# Altium footprint library Footprint.PcbLib: 105 footprints (part 6 of 7)
Each footprint in its own frame and in the unit in brackets; x right, y up, seen from the top. Pads: shape width x height; smd on the part's side, far side on the other; paste and mask are expansions set on the pad; w line width, h text height; cw(c..) or ccw(c..) is an arc to the next point about the centre after c.
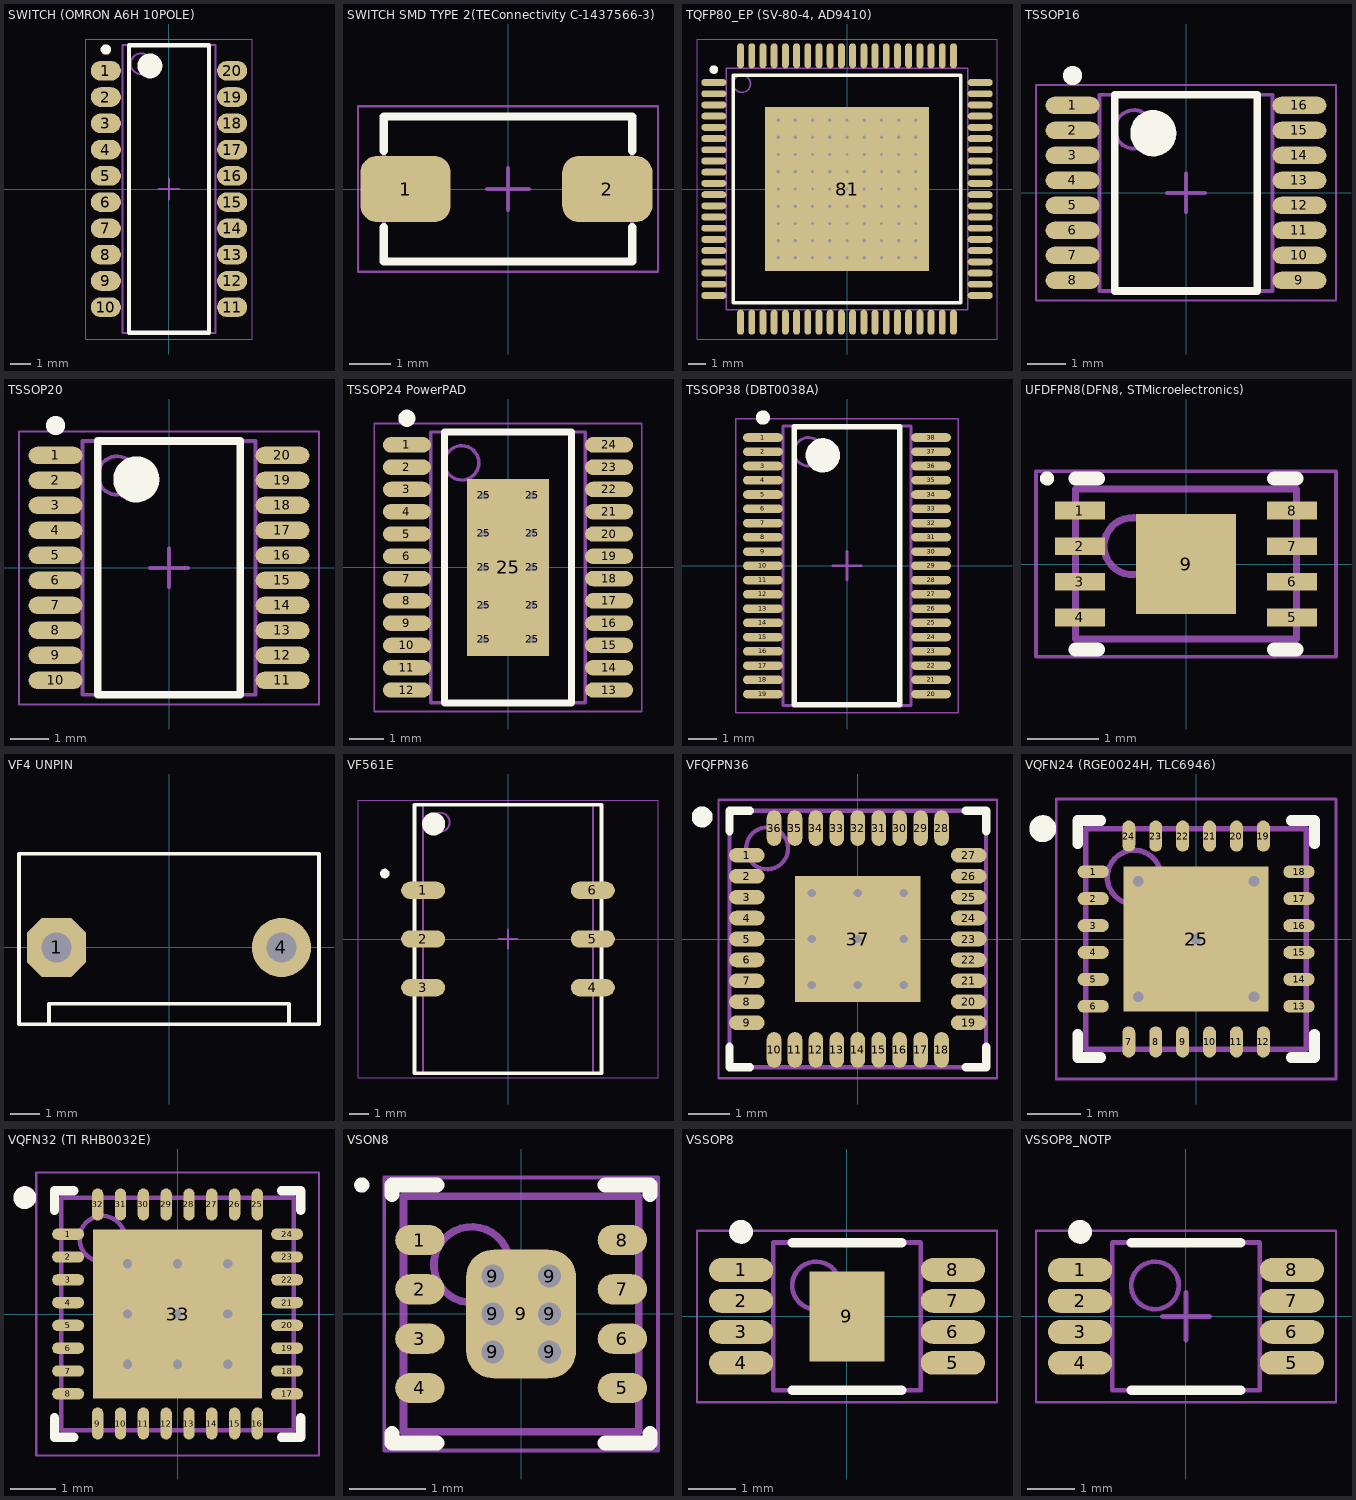
[diagram p5: the footprints below, top view; thin cyan lines are the x and y axes]

## SWITCH (OMRON A6H 10POLE) [mm]
height 1.45
pads (20):
  oval 1.45x0.95 smd: 1(-3.05,5.715) 2(-3.05,4.445) 3(-3.05,3.175) 4(-3.05,1.905) 5(-3.05,0.635) 6(-3.05,-0.635) 7(-3.05,-1.905) 8(-3.05,-3.175) 9(-3.05,-4.445) 10(-3.05,-5.715) 11(3.05,-5.715) 12(3.05,-4.445) 13(3.05,-3.175) 14(3.05,-1.905) 15(3.05,-0.635) 16(3.05,0.635) 17(3.05,1.905) 18(3.05,3.175) 19(3.05,4.445) 20(3.05,5.715)
Top Overlay:
  circle w0.25: c-3.05,6.74 r0.125
  circle w0.6: c-0.925,5.95 r0.3
  lines w0.2: -1.925,-6.95 -1.925,6.95 1.925,6.95 1.925,-6.95 -1.925,-6.95
Mechanical 13:
  circle w0.1: c-1.35,6.05 r0.5
  lines w0.1: -2.25,-6.95 -2.25,6.95 2.25,6.95 2.25,-6.95 -2.25,-6.95
Mechanical 15:
  lines w0.05: -4.025,-7.25 -4.025,7.25 4.025,7.25 4.025,-7.25 -4.025,-7.25
  lines w0.1: -0.5,0 0.5,0 ; 0,-0.5 0,0.5
3D body: height 1.45, standoff 0.1, extent -2.25,-6.95 2.25,6.95

## SWITCH SMD TYPE 2(TEConnectivity C-1437566-3) [mm] "2-Leads, Body 6,00x3,50mm, IPC Medium Density"
height 4.57
pads (2):
  rrect50% 2.18x1.6 smd: 1(-2.475,0) 2(2.4,0)
Top Overlay:
  lines w0.2: -3,-0.925 -3,-1.75 3,-1.75 3,-0.925 ; -3,0.925 -3,1.75 3,1.75 3,0.925
Mechanical 13:
  lines w0.1: -3,-1.75 -3,1.75 3,1.75 3,-1.75 -3,-1.75
Mechanical 15:
  lines w0.05: -3.625,-2 -3.625,2 3.625,2 3.625,-2 -3.625,-2
  lines w0.1: -0.5,0 0.5,0 ; 0,-0.5 0,0.5
3D body: height 4.57, standoff 0, extent -3,-1.75 3,1.75

## TQFP80_EP (SV-80-4, AD9410) [mm] "TQFP, 80-Leads, Body 14.00x14.00mm, Pitch 0.65mm, Thermal Pad 9.50x9.50mm, IPC Medium Density"
height 1.2
pads (162):
  oval 1.45x0.4 smd: 1(-7.725,6.175) 2(-7.725,5.525) 3(-7.725,4.875) 4(-7.725,4.225) 5(-7.725,3.575) 6(-7.725,2.925) 7(-7.725,2.275) 8(-7.725,1.625) 9(-7.725,0.975) 10(-7.725,0.325) 11(-7.725,-0.325) 12(-7.725,-0.975) 13(-7.725,-1.625) 14(-7.725,-2.275) 15(-7.725,-2.925) 16(-7.725,-3.575) 17(-7.725,-4.225) 18(-7.725,-4.875) 19(-7.725,-5.525) 20(-7.725,-6.175) 41(7.725,-6.175) 42(7.725,-5.525) 43(7.725,-4.875) 44(7.725,-4.225) 45(7.725,-3.575) 46(7.725,-2.925) 47(7.725,-2.275) 48(7.725,-1.625) 49(7.725,-0.975) 50(7.725,-0.325) 51(7.725,0.325) 52(7.725,0.975) 53(7.725,1.625) 54(7.725,2.275) 55(7.725,2.925) 56(7.725,3.575) 57(7.725,4.225) 58(7.725,4.875) 59(7.725,5.525) 60(7.725,6.175)
  oval 0.4x1.45 smd: 21(-6.175,-7.725) 22(-5.525,-7.725) 23(-4.875,-7.725) 24(-4.225,-7.725) 25(-3.575,-7.725) 26(-2.925,-7.725) 27(-2.275,-7.725) 28(-1.625,-7.725) 29(-0.975,-7.725) 30(-0.325,-7.725) 31(0.325,-7.725) 32(0.975,-7.725) 33(1.625,-7.725) 34(2.275,-7.725) 35(2.925,-7.725) 36(3.575,-7.725) 37(4.225,-7.725) 38(4.875,-7.725) 39(5.525,-7.725) 40(6.175,-7.725) 61(6.175,7.725) 62(5.525,7.725) 63(4.875,7.725) 64(4.225,7.725) 65(3.575,7.725) 66(2.925,7.725) 67(2.275,7.725) 68(1.625,7.725) 69(0.975,7.725) 70(0.325,7.725) 71(-0.325,7.725) 72(-0.975,7.725) 73(-1.625,7.725) 74(-2.275,7.725) 75(-2.925,7.725) 76(-3.575,7.725) 77(-4.225,7.725) 78(-4.875,7.725) 79(-5.525,7.725) 80(-6.175,7.725)
  round 0.5 hole 0.2: 81(-4,-4) 81(-4,-3) 81(-4,-2) 81(-4,-1) 81(-4,0) 81(-4,1) 81(-4,2) 81(-4,3) 81(-4,4) 81(-3,-4) 81(-3,-3) 81(-3,-2) 81(-3,-1) 81(-3,0) 81(-3,1) 81(-3,2) 81(-3,3) 81(-3,4) 81(-2,0) 81(-2,-4) 81(-2,-3) 81(-2,-2) 81(-2,-1) 81(-2,1) 81(-2,2) 81(-2,3) 81(-2,4) 81(-1,-4) 81(-1,-3) 81(-1,-2) 81(-1,-1) 81(-1,0) 81(-1,1) 81(-1,2) 81(-1,3) 81(-1,4) 81(0,-4) 81(0,-3) 81(0,-2) 81(0,-1) 81(0,0) 81(0,1) 81(0,2) 81(0,3) 81(0,4) 81(1,-4) 81(1,-3) 81(1,-2) 81(1,-1) 81(1,0) 81(1,1) 81(1,2) 81(1,3) 81(1,4) 81(2,-4) 81(2,-3) 81(2,-2) 81(2,-1) 81(2,1) 81(2,2) 81(2,3) 81(2,4) 81(2,0) 81(3,-4) 81(3,-3) 81(3,-2) 81(3,-1) 81(3,0) 81(3,1) 81(3,2) 81(3,3) 81(3,4) 81(4,-4) 81(4,-3) 81(4,-2) 81(4,-1) 81(4,0) 81(4,1) 81(4,2) 81(4,3) 81(4,4)
  rect 9.5x9.5 smd: 81(0,0)
Top Overlay:
  circle w0.25: c-7.725,6.925 r0.125
  lines w0.2: -6.6,-6.6 6.6,-6.6 6.6,6.6 -6.6,6.6 -6.6,-6.6
Mechanical 13:
  circle w0.1: c-6.1,6.1 r0.5
  lines w0.1: -7,-7 7,-7 7,7 -7,7 -7,-7
Mechanical 15:
  lines w0.05: -8.7,-8.7 8.7,-8.7 8.7,8.7 -8.7,8.7 -8.7,-8.7
  lines w0.1: -0.5,0 0.5,0 ; 0,-0.5 0,0.5
3D body: height 1.2, standoff 0.15, extent -7,-7 7,7

## TSSOP16 [mm]
height 1.2
pads (16):
  oval 1.4x0.45 smd: 1(-2.95,2.275) 2(-2.95,1.625) 3(-2.95,0.975) 4(-2.95,0.325) 5(-2.95,-0.325) 6(-2.95,-0.975) 7(-2.95,-1.625) 8(-2.95,-2.275) 9(2.95,-2.275) 10(2.95,-1.625) 11(2.95,-0.975) 12(2.95,-0.325) 13(2.95,0.325) 14(2.95,0.975) 15(2.95,1.625) 16(2.95,2.275)
Top Overlay:
  circle w0.25: c-2.95,3.05 r0.125
  circle w0.6: c-0.85,1.55 r0.3
  lines w0.2: -1.85,-2.55 -1.85,2.55 1.85,2.55 1.85,-2.55 -1.85,-2.55
Mechanical 13:
  circle w0.1: c-1.35,1.65 r0.5
  lines w0.1: -2.25,-2.55 -2.25,2.55 2.25,2.55 2.25,-2.55 -2.25,-2.55
Mechanical 15:
  lines w0.05: -3.9,-2.8 -3.9,2.8 3.9,2.8 3.9,-2.8 -3.9,-2.8
  lines w0.1: -0.5,0 0.5,0 ; 0,-0.5 0,0.5
3D body: height 1.2, standoff 0.15, extent -2.25,-2.55 2.25,2.55

## TSSOP20 [mm]
pads (20):
  oval 1.4x0.45 smd: 1(-2.95,2.925) 2(-2.95,2.275) 3(-2.95,1.625) 4(-2.95,0.975) 5(-2.95,0.325) 6(-2.95,-0.325) 7(-2.95,-0.975) 8(-2.95,-1.625) 9(-2.95,-2.275) 10(-2.95,-2.925) 11(2.95,-2.925) 12(2.95,-2.275) 13(2.95,-1.625) 14(2.95,-0.975) 15(2.95,-0.325) 16(2.95,0.325) 17(2.95,0.975) 18(2.95,1.625) 19(2.95,2.275) 20(2.95,2.925)
Top Overlay:
  circle w0.25: c-2.95,3.7 r0.125
  circle w0.6: c-0.85,2.3 r0.3
  lines w0.2: -1.85,-3.3 -1.85,3.3 1.85,3.3 1.85,-3.3 -1.85,-3.3
Mechanical 13:
  circle w0.1: c-1.35,2.4 r0.5
  lines w0.1: -2.25,-3.3 -2.25,3.3 2.25,3.3 2.25,-3.3 -2.25,-3.3
Mechanical 15:
  lines w0.05: -3.9,-3.55 -3.9,3.55 3.9,3.55 3.9,-3.55 -3.9,-3.55
  lines w0.1: -0.5,0 0.5,0 ; 0,-0.5 0,0.5
3D body: height 1.2, standoff 0.1, extent -2.25,-3.3 2.25,3.3

## TSSOP24 PowerPAD [mm] "TSOP, 24-Leads, Body 7,80x4,40mm, Pitch 0,65mm, Thermal Pad 5,16x2,40mm, IPC Medium Density"
height 1.2
pads (35):
  oval 1.4x0.45 smd: 1(-2.95,3.575) 2(-2.95,2.925) 3(-2.95,2.275) 4(-2.95,1.625) 5(-2.95,0.975) 6(-2.95,0.325) 7(-2.95,-0.325) 8(-2.95,-0.975) 9(-2.95,-1.625) 10(-2.95,-2.275) 11(-2.95,-2.925) 12(-2.95,-3.575) 13(2.95,-3.575) 14(2.95,-2.925) 15(2.95,-2.275) 16(2.95,-1.625) 17(2.95,-0.975) 18(2.95,-0.325) 19(2.95,0.325) 20(2.95,0.975) 21(2.95,1.625) 22(2.95,2.275) 23(2.95,2.925) 24(2.95,3.575)
  round 0.5 hole 0.2: 25(-0.7,-2.1) 25(-0.7,-1.1) 25(-0.7,0) 25(-0.7,1) 25(-0.7,2.1) 25(0.7,-2.1) 25(0.7,-1.1) 25(0.7,0) 25(0.7,1) 25(0.7,2.1)
  rect 2.4x5.16 smd: 25(0,0)
Top Overlay:
  circle w0.25: c-2.95,4.35 r0.125
  lines w0.2: -1.85,-3.95 -1.85,3.95 1.85,3.95 1.85,-3.95 -1.85,-3.95
Mechanical 13:
  circle w0.1: c-1.35,3.05 r0.5
  lines w0.1: -2.25,-3.95 -2.25,3.95 2.25,3.95 2.25,-3.95 -2.25,-3.95
Mechanical 15:
  lines w0.05: -3.9,-4.2 -3.9,4.2 3.9,4.2 3.9,-4.2 -3.9,-4.2
  lines w0.1: -0.5,0 0.5,0 ; 0,-0.5 0,0.5
3D body: height 1.2, standoff 0.25, extent -2.25,-3.95 2.25,3.95

## TSSOP38 (DBT0038A) [mm]
height 1.2
pads (38):
  oval 1.4x0.3 smd: 1(-2.95,4.5) 2(-2.95,4) 3(-2.95,3.5) 4(-2.95,3) 5(-2.95,2.5) 6(-2.95,2) 7(-2.95,1.5) 8(-2.95,1) 9(-2.95,0.5) 10(-2.95,0) 11(-2.95,-0.5) 12(-2.95,-1) 13(-2.95,-1.5) 14(-2.95,-2) 15(-2.95,-2.5) 16(-2.95,-3) 17(-2.95,-3.5) 18(-2.95,-4) 19(-2.95,-4.5) 20(2.95,-4.5) 21(2.95,-4) 22(2.95,-3.5) 23(2.95,-3) 24(2.95,-2.5) 25(2.95,-2) 26(2.95,-1.5) 27(2.95,-1) 28(2.95,-0.5) 29(2.95,0) 30(2.95,0.5) 31(2.95,1) 32(2.95,1.5) 33(2.95,2) 34(2.95,2.5) 35(2.95,3) 36(2.95,3.5) 37(2.95,4) 38(2.95,4.5)
Top Overlay:
  circle w0.25: c-2.95,5.2 r0.125
  circle w0.6: c-0.85,3.875 r0.3
  lines w0.2: -1.85,-4.875 -1.85,4.875 1.85,4.875 1.85,-4.875 -1.85,-4.875
Mechanical 13:
  circle w0.1: c-1.35,4 r0.5
  lines w0.1: -2.25,-4.9 -2.25,4.9 2.25,4.9 2.25,-4.9 -2.25,-4.9
Mechanical 15:
  lines w0.05: -3.9,-5.15 -3.9,5.15 3.9,5.15 3.9,-5.15 -3.9,-5.15
  lines w0.1: -0.5,0 0.5,0 ; 0,-0.5 0,0.5
3D body: height 1.2, standoff 0.1, extent -2.25,-4.9 2.25,4.9

## UFDFPN8(DFN8, STMicroelectronics) [mm] "UFDFPN, 8-Leads, Body 2,00x3,00mm, Pitch 0,50mm, Thermal Pad 1,40x1,40mm, IPC Medium Density"
height 0.6
pads (9):
  rect 0.7x0.25 smd: 1(-1.49,0.75) 2(-1.49,0.25) 3(-1.49,-0.25) 4(-1.49,-0.75) 5(1.49,-0.75) 6(1.49,-0.25) 7(1.49,0.25) 8(1.49,0.75)
  rect 1.4x1.4 smd: 9(0,0)
Top Overlay:
  circle w0.1: c-1.95,1.2 r0.05
  lines w0.2: -1.55,-1.2 -1.24,-1.2 ; -1.55,1.2 -1.24,1.2 ; 1.24,-1.2 1.55,-1.2 ; 1.24,1.2 1.55,1.2
Mechanical 13:
  circle w0.1: c-0.75,0.25 r0.4
  lines w0.1: -1.55,-1.05 1.55,-1.05 1.55,1.05 -1.55,1.05 -1.55,-1.05
Mechanical 15:
  lines w0.05: -2.105,-1.3 2.105,-1.3 2.105,1.3 -2.105,1.3 -2.105,-1.3
  lines w0.1: -0.5,0 0.5,0 ; 0,-0.5 0,0.5
3D body: height 0.6, standoff 0.05, extent -1.55,-1.05 1.55,1.05

## VF4 UNPIN [mm]
pads (2):
  oct 2x2 hole 1: 1(-3.81,0)
  round 2 hole 1: 4(3.81,0)
Top Overlay:
  lines w0.127: -4.064,-2.6 -4.064,-1.905 4.064,-1.905 4.064,-2.6 ; -5.08,-2.6 5.08,-2.6 5.08,3.175 -5.08,3.175 -5.08,-2.6
3D body "WF4S-(2.54).step": height 11.5, standoff -3, extent -5.08,-2.6 5.08,3.2

## VF561E [mm] "CFP, 6-Leads, Body 13.97x8.89mm (max), Pitch 2.54mm, IPC Medium Density"
height 3.31
pads (6):
  oval 2.3x0.9 smd: 1(-4.425,2.54) 2(-4.425,0) 3(-4.425,-2.54) 4(4.425,-2.54) 5(4.425,0) 6(4.425,2.54)
Top Overlay:
  circle w0.6: c-3.875,6 r0.3
  circle w0.25: c-6.425,3.415 r0.125
  lines w0.2: -4.875,-7 -4.875,7 4.875,7 4.875,-7 -4.875,-7
Mechanical 13:
  circle w0.1: c-3.545,6.085 r0.5
  lines w0.1: -4.445,-6.985 -4.445,6.985 4.445,6.985 4.445,-6.985 -4.445,-6.985
Mechanical 15:
  lines w0.05: -7.825,-7.25 -7.825,7.25 7.825,7.25 7.825,-7.25 -7.825,-7.25
  lines w0.1: -0.5,0 0.5,0 ; 0,-0.5 0,0.5
3D body: height 3.31, standoff 0.2, extent -4.445,-6.985 4.445,6.985

## VFQFPN36 [mm] "VFQFPN, 36-Leads, Body 6,00x6,00mm, Pitch 0,50mm, Thermal Pad 3,00x3,00mm, IPC Medium Density"
height 1
pads (37):
  oval 0.85x0.35 smd: 1(-2.65,2) 2(-2.65,1.5) 3(-2.65,1) 4(-2.65,0.5) 5(-2.65,0) 6(-2.65,-0.5) 7(-2.65,-1) 8(-2.65,-1.5) 9(-2.65,-2) 19(2.65,-2) 20(2.65,-1.5) 21(2.65,-1) 22(2.65,-0.5) 23(2.65,0) 24(2.65,0.5) 25(2.65,1) 26(2.65,1.5) 27(2.65,2)
  oval 0.35x0.85 smd: 10(-2,-2.65) 11(-1.5,-2.65) 12(-1,-2.65) 13(-0.5,-2.65) 14(0,-2.65) 15(0.5,-2.65) 16(1,-2.65) 17(1.5,-2.65) 18(2,-2.65) 28(2,2.65) 29(1.5,2.65) 30(1,2.65) 31(0.5,2.65) 32(0,2.65) 33(-0.5,2.65) 34(-1,2.65) 35(-1.5,2.65) 36(-2,2.65)
  rect 3x3 smd: 37(0,0)
via -1.1,1.1 diameter 0.5 hole 0.2
via 0,1.1 diameter 0.5 hole 0.2
via 1.1,1.1 diameter 0.5 hole 0.2
via -1.1,0 diameter 0.5 hole 0.2
via 0,0 diameter 0.5 hole 0.2
via 1.1,0 diameter 0.5 hole 0.2
via -1.1,-1.1 diameter 0.5 hole 0.2
via 0,-1.1 diameter 0.5 hole 0.2
via 1.1,-1.1 diameter 0.5 hole 0.2
Top Overlay:
  circle w0.25: c-3.715,2.915 r0.125
  lines w0.2: -3.065,-2.575 -3.065,-3.065 -2.575,-3.065 ; -3.065,2.575 -3.065,3.065 -2.575,3.065 ; 2.575,-3.065 3.065,-3.065 3.065,-2.575 ; 2.575,3.065 3.065,3.065 3.065,2.575
Mechanical 13:
  circle w0.1: c-2.165,2.165 r0.5
  lines w0.1: -3.065,-3.065 -3.065,3.065 3.065,3.065 3.065,-3.065 -3.065,-3.065
Mechanical 15:
  lines w0.05: -3.325,-3.325 -3.325,3.325 3.325,3.325 3.325,-3.325 -3.325,-3.325
  lines w0.1: -0.5,0 0.5,0 ; 0,-0.5 0,0.5
3D body: height 1, standoff 0.05, extent -3.065,-3.065 3.065,3.065

## VQFN24 (RGE0024H, TLC6946) [mm]
height 1
pads (25):
  oval 0.58x0.24 smd: 1(-1.913,1.25) 2(-1.913,0.75) 3(-1.913,0.25) 4(-1.913,-0.25) 5(-1.913,-0.75) 6(-1.913,-1.25) 13(1.913,-1.25) 14(1.913,-0.75) 15(1.913,-0.25) 16(1.913,0.25) 17(1.913,0.75) 18(1.913,1.25)
  oval 0.24x0.58 smd: 7(-1.25,-1.913) 8(-0.75,-1.913) 9(-0.25,-1.913) 10(0.25,-1.913) 11(0.75,-1.913) 12(1.25,-1.913) 19(1.25,1.913) 20(0.75,1.913) 21(0.25,1.913) 22(-0.25,1.913) 23(-0.75,1.913) 24(-1.25,1.913)
  rect 2.7x2.7 smd: 25(0,0)
via 0,0 diameter 0.5 hole 0.2
via -1.075,-1.075 diameter 0.5 hole 0.2
via 1.075,-1.075 diameter 0.5 hole 0.2
via 1.075,1.075 diameter 0.5 hole 0.2
via -1.075,1.075 diameter 0.5 hole 0.2
Top Overlay:
  circle w0.25: c-2.85,2.05 r0.125
  lines w0.2: -2.2,-1.77 -2.2,-2.2 -1.77,-2.2 ; -2.2,1.77 -2.2,2.2 -1.77,2.2 ; 1.77,-2.2 2.2,-2.2 2.2,-1.77 ; 1.77,2.2 2.2,2.2 2.2,1.77
Mechanical 13:
  circle w0.1: c-1.15,1.15 r0.5
  lines w0.1: -2.05,-2.05 2.05,-2.05 2.05,2.05 -2.05,2.05 -2.05,-2.05
Mechanical 15:
  lines w0.05: -2.6,-2.6 2.6,-2.6 2.6,2.6 -2.6,2.6 -2.6,-2.6
  lines w0.1: -0.5,0 0.5,0 ; 0,-0.5 0,0.5
3D body: height 1, standoff 0.05, extent -2.05,-2.05 2.05,2.05

## VQFN32 (TI RHB0032E) [mm]
height 1
pads (33):
  oval 0.7x0.25 smd: 1(-2.4,1.75) 2(-2.4,1.25) 3(-2.4,0.75) 4(-2.4,0.25) 5(-2.4,-0.25) 6(-2.4,-0.75) 7(-2.4,-1.25) 8(-2.4,-1.75) 17(2.4,-1.75) 18(2.4,-1.25) 19(2.4,-0.75) 20(2.4,-0.25) 21(2.4,0.25) 22(2.4,0.75) 23(2.4,1.25) 24(2.4,1.75)
  oval 0.25x0.7 smd: 9(-1.75,-2.4) 10(-1.25,-2.4) 11(-0.75,-2.4) 12(-0.25,-2.4) 13(0.25,-2.4) 14(0.75,-2.4) 15(1.25,-2.4) 16(1.75,-2.4) 25(1.75,2.4) 26(1.25,2.4) 27(0.75,2.4) 28(0.25,2.4) 29(-0.25,2.4) 30(-0.75,2.4) 31(-1.25,2.4) 32(-1.75,2.4)
  rect 3.7x3.7 smd: 33(0,0)
via 0,0 diameter 0.5 hole 0.2
via -1.1,-1.1 diameter 0.5 hole 0.2
via -1.1,1.1 diameter 0.5 hole 0.2
via 1.1,1.1 diameter 0.5 hole 0.2
via 1.1,-1.1 diameter 0.5 hole 0.2
via 0,-1.1 diameter 0.5 hole 0.2
via 0,1.1 diameter 0.5 hole 0.2
via 1.1,0 diameter 0.5 hole 0.2
via -1.1,0 diameter 0.5 hole 0.2
Top Overlay:
  circle w0.25: c-3.35,2.55 r0.125
  lines w0.2: -2.7,-2.275 -2.7,-2.7 -2.275,-2.7 ; -2.7,2.275 -2.7,2.7 -2.275,2.7 ; 2.275,-2.7 2.7,-2.7 2.7,-2.275 ; 2.275,2.7 2.7,2.7 2.7,2.275
Mechanical 13:
  circle w0.1: c-1.65,1.65 r0.5
  lines w0.1: -2.55,-2.55 -2.55,2.55 2.55,2.55 2.55,-2.55 -2.55,-2.55
Mechanical 15:
  lines w0.05: -3.1,-3.1 -3.1,3.1 3.1,3.1 3.1,-3.1 -3.1,-3.1
  lines w0.1: -0.5,0 0.5,0 ; 0,-0.5 0,0.5
3D body: height 1, standoff 0.05, extent -2.55,-2.55 2.55,2.55

## VSON8 [mm]
height 1
pads (15):
  oval 0.65x0.4 smd: 1(-1.335,0.975) 2(-1.335,0.325) 3(-1.335,-0.325) 4(-1.335,-0.975) 5(1.335,-0.975) 6(1.335,-0.325) 7(1.335,0.325) 8(1.335,0.975)
  round 0.6 hole 0.3: 9(-0.375,-0.5) 9(-0.375,0) 9(-0.375,0.5) 9(0.375,-0.5) 9(0.375,0) 9(0.375,0.5)
  rrect50% 1.45x1.7 smd: 9(0,0)
Top Overlay:
  circle w0.1: c-2.1,1.7 r0.05
  lines w0.2: -1.7,-1.575 -1.7,-1.7 -1.11,-1.7 ; -1.7,1.575 -1.7,1.7 -1.11,1.7 ; 1.11,-1.7 1.7,-1.7 1.7,-1.575 ; 1.11,1.7 1.7,1.7 1.7,1.575
Mechanical 13:
  circle w0.1: c-0.65,0.65 r0.5
  lines w0.1: -1.55,-1.55 -1.55,1.55 1.55,1.55 1.55,-1.55 -1.55,-1.55
Mechanical 15:
  lines w0.05: -1.805,-1.8 -1.805,1.8 1.805,1.8 1.805,-1.8 -1.805,-1.8
  lines w0.1: -0.5,0 0.5,0 ; 0,-0.5 0,0.5
3D body: height 1, standoff 0.05, extent -1.55,-1.55 1.55,1.55

## VSSOP8 [mm]
height 1.1
pads (9):
  oval 1.35x0.5 smd: 1(-2.225,0.975) 2(-2.225,0.325) 3(-2.225,-0.325) 4(-2.225,-0.975) 5(2.225,-0.975) 6(2.225,-0.325) 7(2.225,0.325) 8(2.225,0.975)
  rect 1.57x1.89 smd: 9(0,0)
Top Overlay:
  circle w0.25: c-2.225,1.775 r0.125
  lines w0.2: -1.15,-1.55 1.15,-1.55 ; -1.15,1.55 1.15,1.55
Mechanical 13:
  circle w0.1: c-0.65,0.65 r0.5
  lines w0.1: -1.55,-1.55 1.55,-1.55 1.55,1.55 -1.55,1.55 -1.55,-1.55
Mechanical 15:
  lines w0.05: -3.15,-1.8 3.15,-1.8 3.15,1.8 -3.15,1.8 -3.15,-1.8
  lines w0.1: -0.5,0 0.5,0 ; 0,-0.5 0,0.5
3D body: height 1.1, standoff 0.15, extent -1.55,-1.55 1.55,1.55

## VSSOP8_NOTP [mm]
height 1.1
pads (8):
  oval 1.35x0.5 smd: 1(-2.225,0.975) 2(-2.225,0.325) 3(-2.225,-0.325) 4(-2.225,-0.975) 5(2.225,-0.975) 6(2.225,-0.325) 7(2.225,0.325) 8(2.225,0.975)
Top Overlay:
  circle w0.25: c-2.225,1.775 r0.125
  lines w0.2: -1.15,-1.55 1.15,-1.55 ; -1.15,1.55 1.15,1.55
Mechanical 13:
  circle w0.1: c-0.65,0.65 r0.5
  lines w0.1: -1.55,-1.55 1.55,-1.55 1.55,1.55 -1.55,1.55 -1.55,-1.55
Mechanical 15:
  lines w0.05: -3.15,-1.8 3.15,-1.8 3.15,1.8 -3.15,1.8 -3.15,-1.8
  lines w0.1: -0.5,0 0.5,0 ; 0,-0.5 0,0.5
3D body: height 1.1, standoff 0.15, extent -1.55,-1.55 1.55,1.55